# EAGLE library part 87833-0620 (library robotter_connector)
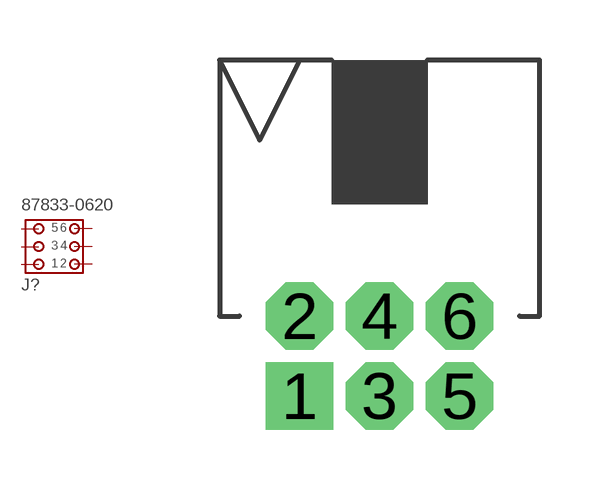
[diagram p18: symbol with the pads of 87833-0620; footprint 87833-0620]

Designator prefix J?

## 87833-0620  [87833-0620]
1  1  pas
2  2  pas
3  3  pas
4  4  pas
5  5  pas
6  6  pas

## Footprint 87833-0620 (pad centres in mm)
drill 1 pad 1.676 square: 1 -2,-2
drill 1 pad 1.676 octagon: 2 -2,0; 3 0,-2; 4 0,0; 5 2,-2; 6 2,0